# EAGLE library part 16PIN-2MM-HEADER (library tecsmith_custom_nick_nacks)
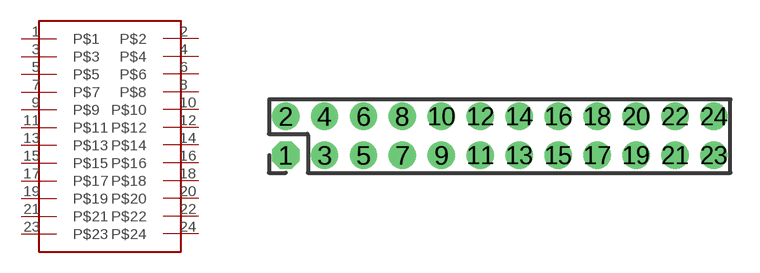
[diagram p6: symbol with the pads of 12X2PIN-2MM-HEADER; footprint 12X2PIN-2MM-HEADER]

Designator prefix -

## 16PIN-2MM-HEADER  [12X2PIN-2MM-HEADER]
1  P$1
2  P$2
3  P$3
4  P$4
5  P$5
6  P$6
7  P$7
8  P$8
9  P$9
10  P$10
11  P$11
12  P$12
13  P$13
14  P$14
15  P$15
16  P$16
17  P$17
18  P$18
19  P$19
20  P$20
21  P$21
22  P$22
23  P$23
24  P$24

## Footprint 12X2PIN-2MM-HEADER (pad centres in mm)
2.00mm Pitch Milli-Grid™ Header, Through Hole, Vertical, 32 Circuits, 0.38µm Gold (Au) Selective Plating, Pocket Tray Packaging, Lead-Free Datasheet <http://www.molex.com/pdm_docs/sd/877583216_sd.pdf>
drill 0.9 pad 1.27 octagon: 1 -0.03,-0.19
drill 0.9 pad 1.27: 2 -0.03,1.81; 3 1.97,-0.19; 4 1.97,1.81; 5 3.97,-0.19; 6 3.97,1.81; 7 5.97,-0.19; 8 5.97,1.81; 9 7.97,-0.19; 10 7.97,1.81; 11 9.97,-0.19; 12 9.97,1.81; 13 11.97,-0.19; 14 11.97,1.81; 15 13.97,-0.19; 16 13.97,1.81; 17 15.97,-0.19; 18 15.97,1.81; 19 17.97,-0.19; 20 17.97,1.81; 21 19.97,-0.19; 22 19.97,1.81; 23 21.97,-0.19; 24 21.97,1.81